# Altium footprint library aiskylab-11Electromechanical.PcbLib: 9 footprints
Each footprint in its own frame and in the unit in brackets; x right, y up, seen from the top. Pads: shape width x height; smd on the part's side, far side on the other; paste and mask are expansions set on the pad; w line width, h text height; cw(c..) or ccw(c..) is an arc to the next point about the centre after c.
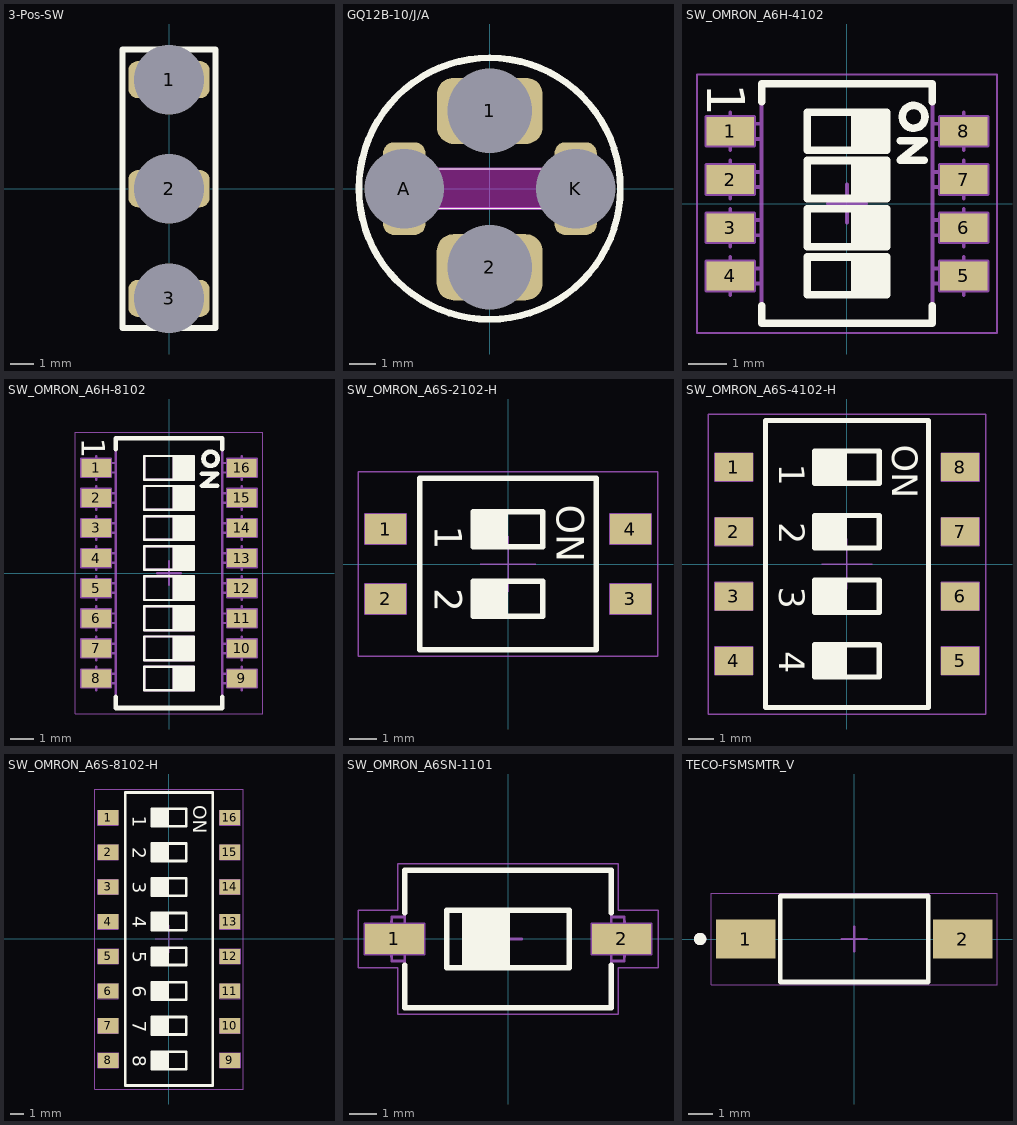
[diagram p0: the footprints below, top view; thin cyan lines are the x and y axes]

## 3-Pos-SW [mm]
pads (3):
  rrect50% 3.5x1.6 hole 3 square: 1(0,4.699) 2(0,0) 3(0,-4.724)
Top Overlay:
  lines w0.254: -2,-6 2,-6 2,6 0,6 -2,6 -2,-6
Top Assembly:
  lines w0.1: -1.356,-5.266 -1.356,-4.166 1.344,-4.166 1.344,-5.266 -1.356,-5.266 ; -1.356,-0.566 -1.356,0.534 1.344,0.534 1.344,-0.566 -1.356,-0.566 ; -1.356,4.134 -1.356,5.234 1.344,5.234 1.344,4.134 -1.356,4.134

## GQ12B-10/J/A [mm] "RGBN"
pads (4):
  rrect50% 4x2.5 hole 3.2 square: 1(0.007,2.939) 2(0,-2.972)
  rrect50% 1.6x3.5 hole 3 square: A(-3.226,0) K(3.251,0)
Top Overlay:
  circle w0.254: c0,0 r4.942
  lines w0.013: -3.7,-1.5 -3.7,1.5 -2.75,1.5 -2.75,-1.5 -3.7,-1.5 ; -2.25,-0.75 2.25,-0.75 2.25,0.75 -2.25,0.75 -2.25,-0.75 ; -1.5,-3.75 1.5,-3.75 1.5,-2.15 -1.5,-2.15 -1.5,-3.75 ; -1.5,2.15 1.5,2.15 1.5,3.75 -1.5,3.75 -1.5,2.15 ; 2.75,-1.5 2.75,1.5 3.7,1.5 3.7,-1.5 2.75,-1.5
  text "-" at 4.84,-0.102 h1.52
  text "+" at -4.826,-0.513 h1.52
Keep-Out Layer:
  board cut-out: -2.25,-0.75 2.25,-0.75 2.25,0.75 -2.25,0.75
Board:
  lines w0.1: -2.25,-0.729 -2.25,0.75 2.25,0.75 2.25,-0.75 -2.229,-0.75

## SW_OMRON_A6H-4102 [mm] "Pitch 1.27mm, Body 6.31 x 4.5mm, 4 Ways SPST Surface-Mounting DIP Switch, OMRON A6H"
height 1.45
pads (8):
  rect 1.25x0.76 smd: 1(-3.075,1.905) 2(-3.075,0.635) 3(-3.075,-0.635) 4(-3.075,-1.905) 5(3.075,-1.905) 6(3.075,-0.635) 7(3.075,0.635) 8(3.075,1.905)
Top Overlay:
  circle w0.2: c1.755,2.286 r0.3
  lines w0.2: -2.25,-2.685 -2.25,-3.155 2.25,-3.155 2.25,-2.685 ; -2.25,2.685 -2.25,3.155 2.25,3.155 2.25,2.685 ; 0.2,-2.405 0.2,-1.405 ; 0.2,-1.135 0.2,-0.135 ; 0.2,0.135 0.2,1.135 ; 0.2,1.405 0.2,2.405 ; 0.3,-2.405 0.3,-1.405 ; 0.3,-1.135 0.3,-0.135 ; 0.3,0.135 0.3,1.135 ; 0.3,1.405 0.3,2.405 ; 0.4,-2.405 0.4,-1.405 ; 0.4,-1.135 0.4,-0.135 ; 0.4,0.135 0.4,1.135 ; 0.4,1.405 0.4,2.405 ; 0.5,-2.405 0.5,-1.405 ; 0.5,-1.135 0.5,-0.135 ; 0.5,0.135 0.5,1.135 ; 0.5,1.405 0.5,2.405 ; 0.6,-2.405 0.6,-1.405 ; 0.6,-1.135 0.6,-0.135 ; 0.6,0.135 0.6,1.135 ; 0.6,1.405 0.6,2.405 ; 0.7,-2.405 0.7,-1.405 ; 0.7,-1.135 0.7,-0.135 ; 0.7,0.135 0.7,1.135 ; 0.7,1.405 0.7,2.405 ; 0.8,-2.405 0.8,-1.405 ; 0.8,-1.135 0.8,-0.135 ; 0.8,0.135 0.8,1.135 ; 0.8,1.405 0.8,2.405 ; 0.9,-2.405 0.9,-1.405 ; 0.9,-1.135 0.9,-0.135 ; 0.9,0.135 0.9,1.135 ; 0.9,1.405 0.9,2.405 ; 1,-2.405 1,-1.405 ; 1,-1.135 1,-0.135 ; 1,0.135 1,1.135 ; 1,1.405 1,2.405 ; 1.397,1.651 2.032,1.651 1.397,1.143 2.032,1.143 ; -1.05,-2.405 -1.05,-1.405 1.05,-1.405 1.05,-2.405 -1.05,-2.405 ; -1.05,-1.135 -1.05,-0.135 1.05,-0.135 1.05,-1.135 -1.05,-1.135 ; -1.05,0.135 -1.05,1.135 1.05,1.135 1.05,0.135 -1.05,0.135 ; -1.05,1.405 -1.05,2.405 1.05,2.405 1.05,1.405 -1.05,1.405
  text "1" at -3.683,3.175 h1
Top Assembly:
  lines w0.1: -2.25,-2.105 -2.87,-2.105 ; -2.25,-1.705 -2.87,-1.705 ; -2.25,-0.835 -2.87,-0.835 ; -2.25,-0.435 -2.87,-0.435 ; -2.25,0.435 -2.87,0.435 ; -2.25,0.835 -2.87,0.835 ; -2.25,1.705 -2.87,1.705 ; -2.25,2.105 -2.87,2.105 ; 0.2,-2.405 0.2,-1.405 ; 0.2,-1.135 0.2,-0.135 ; 0.2,0.135 0.2,1.135 ; 0.2,1.405 0.2,2.405 ; 0.3,-2.405 0.3,-1.405 ; 0.3,-1.135 0.3,-0.135 ; 0.3,0.135 0.3,1.135 ; 0.3,1.405 0.3,2.405 ; 0.4,-2.405 0.4,-1.405 ; 0.4,-1.135 0.4,-0.135 ; 0.4,0.135 0.4,1.135 ; 0.4,1.405 0.4,2.405 ; 0.5,-2.405 0.5,-1.405 ; 0.5,-1.135 0.5,-0.135 ; 0.5,0.135 0.5,1.135 ; 0.5,1.405 0.5,2.405 ; 0.6,-2.405 0.6,-1.405 ; 0.6,-1.135 0.6,-0.135 ; 0.6,0.135 0.6,1.135 ; 0.6,1.405 0.6,2.405 ; 0.7,-2.405 0.7,-1.405 ; 0.7,-1.135 0.7,-0.135 ; 0.7,0.135 0.7,1.135 ; 0.7,1.405 0.7,2.405 ; 0.8,-2.405 0.8,-1.405 ; 0.8,-1.135 0.8,-0.135 ; 0.8,0.135 0.8,1.135 ; 0.8,1.405 0.8,2.405 ; 0.9,-2.405 0.9,-1.405 ; 0.9,-1.135 0.9,-0.135 ; 0.9,0.135 0.9,1.135 ; 0.9,1.405 0.9,2.405 ; 1,-2.405 1,-1.405 ; 1,-1.135 1,-0.135 ; 1,0.135 1,1.135 ; 1,1.405 1,2.405 ; 2.25,-2.105 2.87,-2.105 ; 2.25,-1.705 2.87,-1.705 ; 2.25,-0.835 2.87,-0.835 ; 2.25,-0.435 2.87,-0.435 ; 2.25,0.435 2.87,0.435 ; 2.25,0.835 2.87,0.835 ; 2.25,1.705 2.87,1.705 ; 2.25,2.105 2.87,2.105 ; -2.87,-2.105 -2.87,-1.705 ; -2.87,-2.105 -3.35,-2.105 -3.35,-1.705 -2.87,-1.705 ; -2.87,-0.835 -2.87,-0.435 ; -2.87,-0.835 -3.35,-0.835 -3.35,-0.435 -2.87,-0.435 ; -2.87,0.435 -2.87,0.835 ; -2.87,0.435 -3.35,0.435 -3.35,0.835 -2.87,0.835 ; -2.87,1.705 -2.87,2.105 ; -2.87,1.705 -3.35,1.705 -3.35,2.105 -2.87,2.105 ; 2.87,-2.105 2.87,-1.705 ; 2.87,-2.105 3.35,-2.105 3.35,-1.705 2.87,-1.705 ; 2.87,-0.835 2.87,-0.435 ; 2.87,-0.835 3.35,-0.835 3.35,-0.435 2.87,-0.435 ; 2.87,0.435 2.87,0.835 ; 2.87,0.435 3.35,0.435 3.35,0.835 2.87,0.835 ; 2.87,1.705 2.87,2.105 ; 2.87,1.705 3.35,1.705 3.35,2.105 2.87,2.105 ; -2.25,-3.155 -2.25,3.155 2.25,3.155 2.25,-3.155 -2.25,-3.155 ; -1.05,-2.405 -1.05,-1.405 1.05,-1.405 1.05,-2.405 -1.05,-2.405 ; -1.05,-1.135 -1.05,-0.135 1.05,-0.135 1.05,-1.135 -1.05,-1.135 ; -1.05,0.135 -1.05,1.135 1.05,1.135 1.05,0.135 -1.05,0.135 ; -1.05,1.405 -1.05,2.405 1.05,2.405 1.05,1.405 -1.05,1.405
Top Component Center:
  lines w0.1: -3.575,-1.905 -3.075,-1.905 ; -3.575,-0.635 -3.075,-0.635 ; -3.575,0.635 -3.075,0.635 ; -3.575,1.905 -3.075,1.905 ; -3.075,-2.405 -3.075,-1.905 ; -3.075,-1.405 -3.075,-1.905 ; -3.075,-1.135 -3.075,-0.635 ; -3.075,-0.135 -3.075,-0.635 ; -3.075,0.135 -3.075,0.635 ; -3.075,1.135 -3.075,0.635 ; -3.075,1.405 -3.075,1.905 ; -3.075,2.405 -3.075,1.905 ; -2.575,-1.905 -3.075,-1.905 ; -2.575,-0.635 -3.075,-0.635 ; -2.575,0.635 -3.075,0.635 ; -2.575,1.905 -3.075,1.905 ; -0.5,0 0,0 ; 0,-0.5 0,0 ; 0,0.5 0,0 ; 0.5,0 0,0 ; 2.575,-1.905 3.075,-1.905 ; 2.575,-0.635 3.075,-0.635 ; 2.575,0.635 3.075,0.635 ; 2.575,1.905 3.075,1.905 ; 3.075,-2.405 3.075,-1.905 ; 3.075,-1.405 3.075,-1.905 ; 3.075,-1.135 3.075,-0.635 ; 3.075,-0.135 3.075,-0.635 ; 3.075,0.135 3.075,0.635 ; 3.075,1.135 3.075,0.635 ; 3.075,1.405 3.075,1.905 ; 3.075,2.405 3.075,1.905 ; 3.575,-1.905 3.075,-1.905 ; 3.575,-0.635 3.075,-0.635 ; 3.575,0.635 3.075,0.635 ; 3.575,1.905 3.075,1.905 ; -3.7,-2.285 -2.45,-2.285 -2.45,-1.525 -3.7,-1.525 -3.7,-2.285 ; -3.7,-1.015 -3.7,-0.255 -2.45,-0.255 -2.45,-1.015 -3.7,-1.015 ; -3.7,0.255 -3.7,1.015 -2.45,1.015 -2.45,0.255 -3.7,0.255 ; -3.7,1.525 -2.45,1.525 -2.45,2.285 -3.7,2.285 -3.7,1.525 ; 2.45,-2.285 3.7,-2.285 3.7,-1.525 2.45,-1.525 2.45,-2.285 ; 2.45,-1.015 2.45,-0.255 3.7,-0.255 3.7,-1.015 2.45,-1.015 ; 2.45,0.255 2.45,1.015 3.7,1.015 3.7,0.255 2.45,0.255 ; 2.45,1.525 3.7,1.525 3.7,2.285 2.45,2.285 2.45,1.525
Top Component Outline:
  lines w0.05: -3.95,-3.405 3.95,-3.405 3.95,3.405 -3.95,3.405 -3.95,-3.405
Top 3D Body:
  lines w0.1: -2.25,-2.105 -2.87,-2.105 ; -2.25,-1.705 -2.87,-1.705 ; -2.25,-0.835 -2.87,-0.835 ; -2.25,-0.435 -2.87,-0.435 ; -2.25,0.435 -2.87,0.435 ; -2.25,0.835 -2.87,0.835 ; -2.25,1.705 -2.87,1.705 ; -2.25,2.105 -2.87,2.105 ; 0.2,-2.405 0.2,-1.405 ; 0.2,-1.135 0.2,-0.135 ; 0.2,0.135 0.2,1.135 ; 0.2,1.405 0.2,2.405 ; 0.3,-2.405 0.3,-1.405 ; 0.3,-1.135 0.3,-0.135 ; 0.3,0.135 0.3,1.135 ; 0.3,1.405 0.3,2.405 ; 0.4,-2.405 0.4,-1.405 ; 0.4,-1.135 0.4,-0.135 ; 0.4,0.135 0.4,1.135 ; 0.4,1.405 0.4,2.405 ; 0.5,-2.405 0.5,-1.405 ; 0.5,-1.135 0.5,-0.135 ; 0.5,0.135 0.5,1.135 ; 0.5,1.405 0.5,2.405 ; 0.6,-2.405 0.6,-1.405 ; 0.6,-1.135 0.6,-0.135 ; 0.6,0.135 0.6,1.135 ; 0.6,1.405 0.6,2.405 ; 0.7,-2.405 0.7,-1.405 ; 0.7,-1.135 0.7,-0.135 ; 0.7,0.135 0.7,1.135 ; 0.7,1.405 0.7,2.405 ; 0.8,-2.405 0.8,-1.405 ; 0.8,-1.135 0.8,-0.135 ; 0.8,0.135 0.8,1.135 ; 0.8,1.405 0.8,2.405 ; 0.9,-2.405 0.9,-1.405 ; 0.9,-1.135 0.9,-0.135 ; 0.9,0.135 0.9,1.135 ; 0.9,1.405 0.9,2.405 ; 1,-2.405 1,-1.405 ; 1,-1.135 1,-0.135 ; 1,0.135 1,1.135 ; 1,1.405 1,2.405 ; 2.25,-2.105 2.87,-2.105 ; 2.25,-1.705 2.87,-1.705 ; 2.25,-0.835 2.87,-0.835 ; 2.25,-0.435 2.87,-0.435 ; 2.25,0.435 2.87,0.435 ; 2.25,0.835 2.87,0.835 ; 2.25,1.705 2.87,1.705 ; 2.25,2.105 2.87,2.105 ; -2.87,-2.105 -2.87,-1.705 ; -2.87,-2.105 -3.35,-2.105 -3.35,-1.705 -2.87,-1.705 ; -2.87,-0.835 -2.87,-0.435 ; -2.87,-0.835 -3.35,-0.835 -3.35,-0.435 -2.87,-0.435 ; -2.87,0.435 -2.87,0.835 ; -2.87,0.435 -3.35,0.435 -3.35,0.835 -2.87,0.835 ; -2.87,1.705 -2.87,2.105 ; -2.87,1.705 -3.35,1.705 -3.35,2.105 -2.87,2.105 ; 2.87,-2.105 2.87,-1.705 ; 2.87,-2.105 3.35,-2.105 3.35,-1.705 2.87,-1.705 ; 2.87,-0.835 2.87,-0.435 ; 2.87,-0.835 3.35,-0.835 3.35,-0.435 2.87,-0.435 ; 2.87,0.435 2.87,0.835 ; 2.87,0.435 3.35,0.435 3.35,0.835 2.87,0.835 ; 2.87,1.705 2.87,2.105 ; 2.87,1.705 3.35,1.705 3.35,2.105 2.87,2.105 ; -2.25,-3.155 -2.25,3.155 2.25,3.155 2.25,-3.155 -2.25,-3.155 ; -1.05,-2.405 -1.05,-1.405 1.05,-1.405 1.05,-2.405 -1.05,-2.405 ; -1.05,-1.135 -1.05,-0.135 1.05,-0.135 1.05,-1.135 -1.05,-1.135 ; -1.05,0.135 -1.05,1.135 1.05,1.135 1.05,0.135 -1.05,0.135 ; -1.05,1.405 -1.05,2.405 1.05,2.405 1.05,1.405 -1.05,1.405
3D body "SW_OMRON_A6H-4102.stp": height 1.55, standoff 0, extent -3.35,-3.155 3.35,3.155

## SW_OMRON_A6H-8102 [mm] "Pitch 1.27mm, Body 11.39 x 4.5mm, 8 Ways SPST Surface-Mounting DIP Switch, OMRON A6H"
height 1.45
pads (16):
  rect 1.25x0.76 smd: 1(-3.075,4.445) 2(-3.075,3.175) 3(-3.075,1.905) 4(-3.075,0.635) 5(-3.075,-0.635) 6(-3.075,-1.905) 7(-3.075,-3.175) 8(-3.075,-4.445) 9(3.075,-4.445) 10(3.075,-3.175) 11(3.075,-1.905) 12(3.075,-0.635) 13(3.075,0.635) 14(3.075,1.905) 15(3.075,3.175) 16(3.075,4.445)
Top Overlay:
  circle w0.2: c1.755,4.826 r0.3
  lines w0.1: 0.2,-4.945 0.2,-3.945 ; 0.2,-3.675 0.2,-2.675 ; 0.2,-2.405 0.2,-1.405 ; 0.2,-1.135 0.2,-0.135 ; 0.2,0.135 0.2,1.135 ; 0.2,1.405 0.2,2.405 ; 0.2,2.675 0.2,3.675 ; 0.2,3.945 0.2,4.945 ; 0.3,-4.945 0.3,-3.945 ; 0.3,-3.675 0.3,-2.675 ; 0.3,-2.405 0.3,-1.405 ; 0.3,-1.135 0.3,-0.135 ; 0.3,0.135 0.3,1.135 ; 0.3,1.405 0.3,2.405 ; 0.3,2.675 0.3,3.675 ; 0.3,3.945 0.3,4.945 ; 0.4,-4.945 0.4,-3.945 ; 0.4,-3.675 0.4,-2.675 ; 0.4,-2.405 0.4,-1.405 ; 0.4,-1.135 0.4,-0.135 ; 0.4,0.135 0.4,1.135 ; 0.4,1.405 0.4,2.405 ; 0.4,2.675 0.4,3.675 ; 0.4,3.945 0.4,4.945 ; 0.5,-4.945 0.5,-3.945 ; 0.5,-3.675 0.5,-2.675 ; 0.5,-2.405 0.5,-1.405 ; 0.5,-1.135 0.5,-0.135 ; 0.5,0.135 0.5,1.135 ; 0.5,1.405 0.5,2.405 ; 0.5,2.675 0.5,3.675 ; 0.5,3.945 0.5,4.945 ; 0.6,-4.945 0.6,-3.945 ; 0.6,-3.675 0.6,-2.675 ; 0.6,-2.405 0.6,-1.405 ; 0.6,-1.135 0.6,-0.135 ; 0.6,0.135 0.6,1.135 ; 0.6,1.405 0.6,2.405 ; 0.6,2.675 0.6,3.675 ; 0.6,3.945 0.6,4.945 ; 0.7,-4.945 0.7,-3.945 ; 0.7,-3.675 0.7,-2.675 ; 0.7,-2.405 0.7,-1.405 ; 0.7,-1.135 0.7,-0.135 ; 0.7,0.135 0.7,1.135 ; 0.7,1.405 0.7,2.405 ; 0.7,2.675 0.7,3.675 ; 0.7,3.945 0.7,4.945 ; 0.8,-4.945 0.8,-3.945 ; 0.8,-3.675 0.8,-2.675 ; 0.8,-2.405 0.8,-1.405 ; 0.8,-1.135 0.8,-0.135 ; 0.8,0.135 0.8,1.135 ; 0.8,1.405 0.8,2.405 ; 0.8,2.675 0.8,3.675 ; 0.8,3.945 0.8,4.945 ; 0.9,-4.945 0.9,-3.945 ; 0.9,-3.675 0.9,-2.675 ; 0.9,-2.405 0.9,-1.405 ; 0.9,-1.135 0.9,-0.135 ; 0.9,0.135 0.9,1.135 ; 0.9,1.405 0.9,2.405 ; 0.9,2.675 0.9,3.675 ; 0.9,3.945 0.9,4.945 ; 1,-4.945 1,-3.945 ; 1,-3.675 1,-2.675 ; 1,-2.405 1,-1.405 ; 1,-1.135 1,-0.135 ; 1,0.135 1,1.135 ; 1,1.405 1,2.405 ; 1,2.675 1,3.675 ; 1,3.945 1,4.945 ; -1.05,-4.945 -1.05,-3.945 1.05,-3.945 1.05,-4.945 -1.05,-4.945 ; -1.05,-3.675 -1.05,-2.675 1.05,-2.675 1.05,-3.675 -1.05,-3.675 ; -1.05,-2.405 -1.05,-1.405 1.05,-1.405 1.05,-2.405 -1.05,-2.405 ; -1.05,-1.135 -1.05,-0.135 1.05,-0.135 1.05,-1.135 -1.05,-1.135 ; -1.05,0.135 -1.05,1.135 1.05,1.135 1.05,0.135 -1.05,0.135 ; -1.05,1.405 -1.05,2.405 1.05,2.405 1.05,1.405 -1.05,1.405 ; -1.05,2.675 -1.05,3.675 1.05,3.675 1.05,2.675 -1.05,2.675 ; -1.05,3.945 -1.05,4.945 1.05,4.945 1.05,3.945 -1.05,3.945
  lines w0.2: -2.25,-5.225 -2.25,-5.695 2.25,-5.695 2.25,-5.225 ; -2.25,5.225 -2.25,5.695 2.25,5.695 2.25,5.225 ; 1.397,4.191 2.032,4.191 1.397,3.683 2.032,3.683
  text "1" at -3.683,5.715 h1
Top Assembly:
  drawing of 208 lines, arcs and shapes, not listed
  text "1" at -3.683,5.715 h1
Top Component Center:
  lines w0.1: -3.575,-4.445 -3.075,-4.445 ; -3.575,-3.175 -3.075,-3.175 ; -3.575,-1.905 -3.075,-1.905 ; -3.575,-0.635 -3.075,-0.635 ; -3.575,0.635 -3.075,0.635 ; -3.575,1.905 -3.075,1.905 ; -3.575,3.175 -3.075,3.175 ; -3.575,4.445 -3.075,4.445 ; -3.075,-4.945 -3.075,-4.445 ; -3.075,-3.945 -3.075,-4.445 ; -3.075,-3.675 -3.075,-3.175 ; -3.075,-2.675 -3.075,-3.175 ; -3.075,-2.405 -3.075,-1.905 ; -3.075,-1.405 -3.075,-1.905 ; -3.075,-1.135 -3.075,-0.635 ; -3.075,-0.135 -3.075,-0.635 ; -3.075,0.135 -3.075,0.635 ; -3.075,1.135 -3.075,0.635 ; -3.075,1.405 -3.075,1.905 ; -3.075,2.405 -3.075,1.905 ; -3.075,2.675 -3.075,3.175 ; -3.075,3.675 -3.075,3.175 ; -3.075,3.945 -3.075,4.445 ; -3.075,4.945 -3.075,4.445 ; -2.575,-4.445 -3.075,-4.445 ; -2.575,-3.175 -3.075,-3.175 ; -2.575,-1.905 -3.075,-1.905 ; -2.575,-0.635 -3.075,-0.635 ; -2.575,0.635 -3.075,0.635 ; -2.575,1.905 -3.075,1.905 ; -2.575,3.175 -3.075,3.175 ; -2.575,4.445 -3.075,4.445 ; -0.5,0 0,0 ; 0,-0.5 0,0 ; 0,0.5 0,0 ; 0.5,0 0,0 ; 2.575,-4.445 3.075,-4.445 ; 2.575,-3.175 3.075,-3.175 ; 2.575,-1.905 3.075,-1.905 ; 2.575,-0.635 3.075,-0.635 ; 2.575,0.635 3.075,0.635 ; 2.575,1.905 3.075,1.905 ; 2.575,3.175 3.075,3.175 ; 2.575,4.445 3.075,4.445 ; 3.075,-4.945 3.075,-4.445 ; 3.075,-3.945 3.075,-4.445 ; 3.075,-3.675 3.075,-3.175 ; 3.075,-2.675 3.075,-3.175 ; 3.075,-2.405 3.075,-1.905 ; 3.075,-1.405 3.075,-1.905 ; 3.075,-1.135 3.075,-0.635 ; 3.075,-0.135 3.075,-0.635 ; 3.075,0.135 3.075,0.635 ; 3.075,1.135 3.075,0.635 ; 3.075,1.405 3.075,1.905 ; 3.075,2.405 3.075,1.905 ; 3.075,2.675 3.075,3.175 ; 3.075,3.675 3.075,3.175 ; 3.075,3.945 3.075,4.445 ; 3.075,4.945 3.075,4.445 ; 3.575,-4.445 3.075,-4.445 ; 3.575,-3.175 3.075,-3.175 ; 3.575,-1.905 3.075,-1.905 ; 3.575,-0.635 3.075,-0.635 ; 3.575,0.635 3.075,0.635 ; 3.575,1.905 3.075,1.905 ; 3.575,3.175 3.075,3.175 ; 3.575,4.445 3.075,4.445 ; -3.7,-4.825 -3.7,-4.065 -2.45,-4.065 -2.45,-4.825 -3.7,-4.825 ; -3.7,-3.555 -3.7,-2.795 -2.45,-2.795 -2.45,-3.555 -3.7,-3.555 ; -3.7,-2.285 -3.7,-1.525 -2.45,-1.525 -2.45,-2.285 -3.7,-2.285 ; -3.7,-1.015 -3.7,-0.255 -2.45,-0.255 -2.45,-1.015 -3.7,-1.015 ; -3.7,0.255 -3.7,1.015 -2.45,1.015 -2.45,0.255 -3.7,0.255 ; -3.7,1.525 -3.7,2.285 -2.45,2.285 -2.45,1.525 -3.7,1.525 ; -3.7,2.795 -3.7,3.555 -2.45,3.555 -2.45,2.795 -3.7,2.795 ; -3.7,4.065 -3.7,4.825 -2.45,4.825 -2.45,4.065 -3.7,4.065 ; 2.45,-4.825 2.45,-4.065 3.7,-4.065 3.7,-4.825 2.45,-4.825 ; 2.45,-3.555 2.45,-2.795 3.7,-2.795 3.7,-3.555 2.45,-3.555 ; 2.45,-2.285 2.45,-1.525 3.7,-1.525 3.7,-2.285 2.45,-2.285 ; 2.45,-1.015 2.45,-0.255 3.7,-0.255 3.7,-1.015 2.45,-1.015 ; 2.45,0.255 2.45,1.015 3.7,1.015 3.7,0.255 2.45,0.255 ; 2.45,1.525 2.45,2.285 3.7,2.285 3.7,1.525 2.45,1.525 ; 2.45,2.795 2.45,3.555 3.7,3.555 3.7,2.795 2.45,2.795 ; 2.45,4.065 2.45,4.825 3.7,4.825 3.7,4.065 2.45,4.065
Top 3D Body:
  drawing of 208 lines, arcs and shapes, not listed
  text "1" at -3.683,5.715 h1
Bottom 3D Body:
  lines w0.05: -3.95,-5.945 3.95,-5.945 3.95,5.945 -3.95,5.945 -3.95,-5.945
3D body "SW_OMRON_A6H-8102.stp": height 1.55, standoff 0, extent -3.35,-5.695 3.35,5.695

## SW_OMRON_A6S-2102-H [mm] "Pitch 2.54mm, Body 6.2x6.4mm, 2 Ways SPST Surface-Mounting DIP Switch, OMRON A6S-H"
height 3.8
pads (4):
  rect 1.5x1.1 smd: 1(-4.45,1.27) 2(-4.45,-1.27) 3(4.45,-1.27) 4(4.45,1.27)
Top Overlay:
  region: -1.27,-0.635 -1.27,-1.905 0,-1.905 0,-0.635
  region: -1.27,1.905 -1.27,0.635 0,0.635 0,1.905
  lines w0.2: -3.2,-3.11 -3.2,3.11 3.2,3.11 3.2,-3.11 -3.2,-3.11 ; -1.27,-1.905 1.27,-1.905 1.27,-0.635 -1.27,-0.635 -1.27,-1.905 ; -1.27,0.635 -1.27,1.905 1.27,1.905 1.27,0.635 -1.27,0.635
  text "1" at -2.667,1.397 h1
  text "2" at -2.667,-0.889 h1
  text "ON" at 1.778,2.159 h1
Top Assembly:
  region: -1.27,1.905 -1.27,0.635 0,0.635 0,1.905
  region: -1.27,-0.635 -1.27,-1.905 0,-1.905 0,-0.635
  lines w0.1: -3.2,-3.11 3.2,-3.11 3.2,3.11 -3.2,3.11 -3.2,-3.11 ; -1.27,-1.905 1.27,-1.905 1.27,-0.635 -1.27,-0.635 -1.27,-1.905 ; -1.27,0.635 -1.27,1.905 1.27,1.905 1.27,0.635 -1.27,0.635
  text "1" at -2.667,1.397 h1
  text "2" at -2.667,-0.889 h1
  text "ON" at 1.778,2.159 h1
Top Component Center:
  lines w0.05: -5.2,1.27 -4.45,1.27 -4.45,0.72 ; -1,0 1,0 ; 0,-1 0,1 ; -5.2,-1.82 -3.7,-1.82 -3.7,-0.72 -5.2,-0.72 -5.2,-1.82 ; -5.2,0.72 -3.7,0.72 -3.7,1.82 -5.2,1.82 -5.2,0.72 ; 3.7,-1.82 5.2,-1.82 5.2,-0.72 3.7,-0.72 3.7,-1.82 ; 3.7,0.72 5.2,0.72 5.2,1.82 3.7,1.82 3.7,0.72
Top Component Outline:
  lines w0.05: -5.45,-3.36 -5.45,3.36 5.45,3.36 5.45,-3.36 -5.45,-3.36
Top 3D Body:
  region: -1.27,1.905 -1.27,0.635 0,0.635 0,1.905
  region: -1.27,-0.635 -1.27,-1.905 0,-1.905 0,-0.635
  lines w0.1: -3.2,-3.11 3.2,-3.11 3.2,3.11 -3.2,3.11 -3.2,-3.11 ; -1.27,-1.905 1.27,-1.905 1.27,-0.635 -1.27,-0.635 -1.27,-1.905 ; -1.27,0.635 -1.27,1.905 1.27,1.905 1.27,0.635 -1.27,0.635
  text "1" at -2.667,1.397 h1
  text "2" at -2.667,-0.889 h1
  text "ON" at 1.778,2.159 h1
3D body "SW_OMRON_A6S-2102-H.stp": height 3.97, standoff 0, extent -4.901,-3.01 4.902,3.01

## SW_OMRON_A6S-4102-H [mm] "Pitch 2.54mm, Body 11.3x6.4mm, 4 Ways SPST Surface-Mounting DIP Switch, OMRON A6S-H"
height 3.8
pads (8):
  rect 1.5x1.1 smd: 1(-4.45,3.81) 2(-4.45,1.27) 3(-4.45,-1.27) 4(-4.45,-3.81) 5(4.45,-3.81) 6(4.45,-1.27) 7(4.45,1.27) 8(4.45,3.81)
Top Overlay:
  region: -1.27,-3.175 -1.27,-4.445 0,-4.445 0,-3.175
  region: -1.27,-0.635 -1.27,-1.905 0,-1.905 0,-0.635
  region: -1.27,1.905 -1.27,0.635 0,0.635 0,1.905
  region: -1.27,4.445 -1.27,3.175 0,3.175 0,4.445
  lines w0.2: -3.2,-5.65 -3.2,5.65 3.2,5.65 3.2,-5.65 -3.2,-5.65 ; -1.27,-4.445 -1.27,-3.175 1.27,-3.175 1.27,-4.445 -1.27,-4.445 ; -1.27,-1.905 -1.27,-0.635 1.27,-0.635 1.27,-1.905 -1.27,-1.905 ; -1.27,0.635 1.27,0.635 1.27,1.905 -1.27,1.905 -1.27,0.635 ; -1.27,3.175 -1.27,4.445 1.27,4.445 1.27,3.175 -1.27,3.175
  text "1" at -2.667,3.937 h1
  text "2" at -2.667,1.651 h1
  text "ON" at 1.778,4.699 h1
  text "3" at -2.667,-0.889 h1
  text "4" at -2.667,-3.429 h1
Top Assembly:
  region: -1.27,-3.175 -1.27,-4.445 0,-4.445 0,-3.175
  region: -1.27,-0.635 -1.27,-1.905 0,-1.905 0,-0.635
  region: -1.27,4.445 -1.27,3.175 0,3.175 0,4.445
  region: -1.27,1.905 -1.27,0.635 0,0.635 0,1.905
  lines w0.1: -3.2,-5.65 3.2,-5.65 3.2,5.65 -3.2,5.65 -3.2,-5.65 ; -1.27,-4.445 -1.27,-3.175 1.27,-3.175 1.27,-4.445 -1.27,-4.445 ; -1.27,-1.905 -1.27,-0.635 1.27,-0.635 1.27,-1.905 -1.27,-1.905 ; -1.27,0.635 1.27,0.635 1.27,1.905 -1.27,1.905 -1.27,0.635 ; -1.27,3.175 -1.27,4.445 1.27,4.445 1.27,3.175 -1.27,3.175
  text "1" at -2.667,3.937 h1
  text "2" at -2.667,1.651 h1
  text "ON" at 1.778,4.699 h1
  text "3" at -2.667,-0.889 h1
  text "4" at -2.667,-3.429 h1
Top Component Center:
  lines w0.05: -1,0 1,0 ; 0,-1 0,1 ; -5.2,-4.36 -3.7,-4.36 -3.7,-3.26 -5.2,-3.26 -5.2,-4.36 ; -5.2,-1.82 -3.7,-1.82 -3.7,-0.72 -5.2,-0.72 -5.2,-1.82 ; -5.2,0.72 -3.7,0.72 -3.7,1.82 -5.2,1.82 -5.2,0.72 ; -5.2,3.26 -3.7,3.26 -3.7,4.36 -5.2,4.36 -5.2,3.26 ; -3.2,-5.65 3.2,-5.65 3.2,5.65 -3.2,5.65 -3.2,-5.65 ; 3.7,-4.36 5.2,-4.36 5.2,-3.26 3.7,-3.26 3.7,-4.36 ; 3.7,-1.82 5.2,-1.82 5.2,-0.72 3.7,-0.72 3.7,-1.82 ; 3.7,0.72 5.2,0.72 5.2,1.82 3.7,1.82 3.7,0.72 ; 3.7,3.26 5.2,3.26 5.2,4.36 3.7,4.36 3.7,3.26
Top Component Outline:
  lines w0.05: -5.45,-5.9 -5.45,5.9 5.45,5.9 5.45,-5.9 -5.45,-5.9
Top 3D Body:
  region: -1.27,-3.175 -1.27,-4.445 0,-4.445 0,-3.175
  region: -1.27,-0.635 -1.27,-1.905 0,-1.905 0,-0.635
  region: -1.27,4.445 -1.27,3.175 0,3.175 0,4.445
  region: -1.27,1.905 -1.27,0.635 0,0.635 0,1.905
  lines w0.1: -3.2,-5.65 3.2,-5.65 3.2,5.65 -3.2,5.65 -3.2,-5.65 ; -1.27,-4.445 -1.27,-3.175 1.27,-3.175 1.27,-4.445 -1.27,-4.445 ; -1.27,-1.905 -1.27,-0.635 1.27,-0.635 1.27,-1.905 -1.27,-1.905 ; -1.27,0.635 1.27,0.635 1.27,1.905 -1.27,1.905 -1.27,0.635 ; -1.27,3.175 -1.27,4.445 1.27,4.445 1.27,3.175 -1.27,3.175
  text "1" at -2.667,3.937 h1
  text "2" at -2.667,1.651 h1
  text "ON" at 1.778,4.699 h1
  text "3" at -2.667,-0.889 h1
  text "4" at -2.667,-3.429 h1
3D body "SW_OMRON_A6S-4102-H.stp": height 3.97, standoff 0, extent -4.901,-5.55 4.902,5.55

## SW_OMRON_A6S-8102-H [mm] "Pitch 2.54mm, Body 21.5x6.4mm, 8 Ways SPST Surface-Mounting DIP Switch, OMRON A6S-H"
height 3.8
pads (16):
  rect 1.5x1.1 smd: 1(-4.45,8.89) 2(-4.45,6.35) 3(-4.45,3.81) 4(-4.45,1.27) 5(-4.45,-1.27) 6(-4.45,-3.81) 7(-4.45,-6.35) 8(-4.45,-8.89) 9(4.45,-8.89) 10(4.45,-6.35) 11(4.45,-3.81) 12(4.45,-1.27) 13(4.45,1.27) 14(4.45,3.81) 15(4.45,6.35) 16(4.45,8.89)
Top Overlay:
  region: -1.27,-8.255 -1.27,-9.525 0,-9.525 0,-8.255
  region: -1.27,-5.715 -1.27,-6.985 0,-6.985 0,-5.715
  region: -1.27,-3.175 -1.27,-4.445 0,-4.445 0,-3.175
  region: -1.27,-0.635 -1.27,-1.905 0,-1.905 0,-0.635
  region: -1.27,1.905 -1.27,0.635 0,0.635 0,1.905
  region: -1.27,4.445 -1.27,3.175 0,3.175 0,4.445
  region: -1.27,6.985 -1.27,5.715 0,5.715 0,6.985
  region: -1.27,9.525 -1.27,8.255 0,8.255 0,9.525
  lines w0.2: -3.2,-10.73 -3.2,10.73 3.2,10.73 3.2,-10.73 -3.2,-10.73 ; -1.27,-9.525 1.27,-9.525 1.27,-8.255 -1.27,-8.255 -1.27,-9.525 ; -1.27,-6.985 1.27,-6.985 1.27,-5.715 -1.27,-5.715 -1.27,-6.985 ; -1.27,-4.445 1.27,-4.445 1.27,-3.175 -1.27,-3.175 -1.27,-4.445 ; -1.27,-1.905 1.27,-1.905 1.27,-0.635 -1.27,-0.635 -1.27,-1.905 ; -1.27,0.635 -1.27,1.905 1.27,1.905 1.27,0.635 -1.27,0.635 ; -1.27,3.175 -1.27,4.445 1.27,4.445 1.27,3.175 -1.27,3.175 ; -1.27,5.715 1.27,5.715 1.27,6.985 -1.27,6.985 -1.27,5.715 ; -1.27,8.255 -1.27,9.525 1.27,9.525 1.27,8.255 -1.27,8.255
  text "1" at -2.667,9.017 h1
  text "2" at -2.667,6.731 h1
  text "ON" at 1.778,9.779 h1
  text "3" at -2.667,4.191 h1
  text "4" at -2.667,1.651 h1
  text "5" at -2.667,-0.889 h1
  text "6" at -2.667,-3.429 h1
  text "7" at -2.667,-5.969 h1
  text "8" at -2.667,-8.509 h1
Top Assembly:
  region: -1.27,-8.255 -1.27,-9.525 0,-9.525 0,-8.255
  region: -1.27,-5.715 -1.27,-6.985 0,-6.985 0,-5.715
  region: -1.27,-3.175 -1.27,-4.445 0,-4.445 0,-3.175
  region: -1.27,-0.635 -1.27,-1.905 0,-1.905 0,-0.635
  region: -1.27,1.905 -1.27,0.635 0,0.635 0,1.905
  region: -1.27,4.445 -1.27,3.175 0,3.175 0,4.445
  region: -1.27,9.525 -1.27,8.255 0,8.255 0,9.525
  region: -1.27,6.985 -1.27,5.715 0,5.715 0,6.985
  lines w0.1: -3.2,-10.73 3.2,-10.73 3.2,10.73 -3.2,10.73 -3.2,-10.73 ; -1.27,-9.525 1.27,-9.525 1.27,-8.255 -1.27,-8.255 -1.27,-9.525 ; -1.27,-6.985 1.27,-6.985 1.27,-5.715 -1.27,-5.715 -1.27,-6.985 ; -1.27,-4.445 1.27,-4.445 1.27,-3.175 -1.27,-3.175 -1.27,-4.445 ; -1.27,-1.905 1.27,-1.905 1.27,-0.635 -1.27,-0.635 -1.27,-1.905 ; -1.27,0.635 -1.27,1.905 1.27,1.905 1.27,0.635 -1.27,0.635 ; -1.27,3.175 -1.27,4.445 1.27,4.445 1.27,3.175 -1.27,3.175 ; -1.27,5.715 1.27,5.715 1.27,6.985 -1.27,6.985 -1.27,5.715 ; -1.27,8.255 -1.27,9.525 1.27,9.525 1.27,8.255 -1.27,8.255
  text "1" at -2.667,9.017 h1
  text "2" at -2.667,6.731 h1
  text "ON" at 1.778,9.779 h1
  text "3" at -2.667,4.191 h1
  text "4" at -2.667,1.651 h1
  text "5" at -2.667,-0.889 h1
  text "6" at -2.667,-3.429 h1
  text "7" at -2.667,-5.969 h1
  text "8" at -2.667,-8.509 h1
Top Component Center:
  lines w0.05: -1,0 1,0 ; 0,-1 0,1 ; -5.2,-9.44 -3.7,-9.44 -3.7,-8.34 -5.2,-8.34 -5.2,-9.44 ; -5.2,-6.9 -3.7,-6.9 -3.7,-5.8 -5.2,-5.8 -5.2,-6.9 ; -5.2,-4.36 -3.7,-4.36 -3.7,-3.26 -5.2,-3.26 -5.2,-4.36 ; -5.2,-1.82 -3.7,-1.82 -3.7,-0.72 -5.2,-0.72 -5.2,-1.82 ; -5.2,0.72 -3.7,0.72 -3.7,1.82 -5.2,1.82 -5.2,0.72 ; -5.2,3.26 -3.7,3.26 -3.7,4.36 -5.2,4.36 -5.2,3.26 ; -5.2,5.8 -3.7,5.8 -3.7,6.9 -5.2,6.9 -5.2,5.8 ; -5.2,8.34 -3.7,8.34 -3.7,9.44 -5.2,9.44 -5.2,8.34 ; -3.2,-10.73 3.2,-10.73 3.2,10.73 -3.2,10.73 -3.2,-10.73 ; 3.7,-9.44 5.2,-9.44 5.2,-8.34 3.7,-8.34 3.7,-9.44 ; 3.7,-6.9 5.2,-6.9 5.2,-5.8 3.7,-5.8 3.7,-6.9 ; 3.7,-4.36 5.2,-4.36 5.2,-3.26 3.7,-3.26 3.7,-4.36 ; 3.7,-1.82 5.2,-1.82 5.2,-0.72 3.7,-0.72 3.7,-1.82 ; 3.7,0.72 5.2,0.72 5.2,1.82 3.7,1.82 3.7,0.72 ; 3.7,3.26 5.2,3.26 5.2,4.36 3.7,4.36 3.7,3.26 ; 3.7,5.8 5.2,5.8 5.2,6.9 3.7,6.9 3.7,5.8 ; 3.7,8.34 5.2,8.34 5.2,9.44 3.7,9.44 3.7,8.34
Top 3D Body:
  region: -1.27,-8.255 -1.27,-9.525 0,-9.525 0,-8.255
  region: -1.27,-5.715 -1.27,-6.985 0,-6.985 0,-5.715
  region: -1.27,-3.175 -1.27,-4.445 0,-4.445 0,-3.175
  region: -1.27,-0.635 -1.27,-1.905 0,-1.905 0,-0.635
  region: -1.27,1.905 -1.27,0.635 0,0.635 0,1.905
  region: -1.27,4.445 -1.27,3.175 0,3.175 0,4.445
  region: -1.27,9.525 -1.27,8.255 0,8.255 0,9.525
  region: -1.27,6.985 -1.27,5.715 0,5.715 0,6.985
  lines w0.1: -3.2,-10.73 3.2,-10.73 3.2,10.73 -3.2,10.73 -3.2,-10.73 ; -1.27,-9.525 1.27,-9.525 1.27,-8.255 -1.27,-8.255 -1.27,-9.525 ; -1.27,-6.985 1.27,-6.985 1.27,-5.715 -1.27,-5.715 -1.27,-6.985 ; -1.27,-4.445 1.27,-4.445 1.27,-3.175 -1.27,-3.175 -1.27,-4.445 ; -1.27,-1.905 1.27,-1.905 1.27,-0.635 -1.27,-0.635 -1.27,-1.905 ; -1.27,0.635 -1.27,1.905 1.27,1.905 1.27,0.635 -1.27,0.635 ; -1.27,3.175 -1.27,4.445 1.27,4.445 1.27,3.175 -1.27,3.175 ; -1.27,5.715 1.27,5.715 1.27,6.985 -1.27,6.985 -1.27,5.715 ; -1.27,8.255 -1.27,9.525 1.27,9.525 1.27,8.255 -1.27,8.255
  text "1" at -2.667,9.017 h1
  text "2" at -2.667,6.731 h1
  text "ON" at 1.778,9.779 h1
  text "3" at -2.667,4.191 h1
  text "4" at -2.667,1.651 h1
  text "5" at -2.667,-0.889 h1
  text "6" at -2.667,-3.429 h1
  text "7" at -2.667,-5.969 h1
  text "8" at -2.667,-8.509 h1
Bottom 3D Body:
  lines w0.05: -5.45,-10.98 5.45,-10.98 5.45,10.98 -5.45,10.98 -5.45,-10.98
3D body "SW_OMRON_A6S-8102-H.stp": height 3.85, standoff -0.12, extent -4.901,-10.63 4.902,10.63

## SW_OMRON_A6SN-1101 [mm] "Body 4.48x7.5mm, 1 Ways SPST Surface-Mounting DIP Switch, OMRON A6SN"
height 4.6
pads (2):
  rect 2.15x1.1 smd: 1(-4.125,0) 2(4.125,0)
Top Overlay:
  lines w0.2: -3.75,-0.95 -3.75,-2.49 3.75,-2.49 3.75,-0.95 ; -3.75,0.95 -3.75,2.49 3.75,2.49 3.75,0.95 ; -1.578,-1.05 -1.578,1.05 ; -1.378,-1.05 -1.378,1.05 ; -1.178,-1.05 -1.178,1.05 ; -0.978,-1.05 -0.978,1.05 ; -0.778,-1.05 -0.778,1.05 ; -0.578,-1.05 -0.578,1.05 ; -0.378,-1.05 -0.378,1.05 ; -0.178,-1.05 -0.178,1.05 ; -0.025,-1.05 -0.025,1.05 ; -2.225,-1.05 -2.225,1.05 2.225,1.05 2.225,-1.05 -2.225,-1.05
Top Assembly:
  lines w0.1: -3.75,-0.8 -4.226,-0.8 -4.25,-0.3 -4.65,-0.3 -4.65,0.3 -4.25,0.3 -4.226,0.8 -3.75,0.8 ; -1.578,-1.05 -1.578,1.05 ; -1.478,-1.05 -1.478,1.05 ; -1.378,-1.05 -1.378,1.05 ; -1.278,-1.05 -1.278,1.05 ; -1.178,-1.05 -1.178,1.05 ; -1.078,-1.05 -1.078,1.05 ; -0.978,-1.05 -0.978,1.05 ; -0.878,-1.05 -0.878,1.05 ; -0.778,-1.05 -0.778,1.05 ; -0.678,-1.05 -0.678,1.05 ; -0.578,-1.05 -0.578,1.05 ; -0.478,-1.05 -0.478,1.05 ; -0.378,-1.05 -0.378,1.05 ; -0.278,-1.05 -0.278,1.05 ; -0.178,-1.05 -0.178,1.05 ; -0.078,-1.05 -0.078,1.05 ; -0.025,-1.05 -0.025,1.05 ; 3.75,-0.8 4.226,-0.8 4.25,-0.3 4.65,-0.3 4.65,0.3 4.25,0.3 4.226,0.8 3.75,0.8 ; 3.75,0.55 4.226,0.55 ; -3.75,-2.49 3.75,-2.49 3.75,2.49 -3.75,2.49 -3.75,-2.49 ; -2.225,-1.05 2.225,-1.05 2.225,1.05 -2.225,1.05 -2.225,-1.05
  text "ON" at 2.54,0.889 h1
Top Component Center:
  lines w0.1: -4.625,0 -4.125,0 ; -4.125,-0.5 -4.125,0 ; -4.125,0.5 -4.125,0 ; -3.625,0 -4.125,0 ; -0.5,0 0,0 ; 0,-0.5 0,0 ; 0,0.5 0,0 ; 0.5,0 0,0 ; 3.625,0 4.125,0 ; 4.125,-0.5 4.125,0 ; 4.125,0.5 4.125,0 ; 4.625,0 4.125,0 ; -5.2,-0.55 -5.2,0.55 -3.05,0.55 -3.05,-0.55 -5.2,-0.55 ; 3.05,-0.55 3.05,0.55 5.2,0.55 5.2,-0.55 3.05,-0.55
Top Component Outline:
  lines w0.05: -5.45,-1.05 -4,-1.05 -4,-2.74 4,-2.74 4,-1.05 5.45,-1.05 5.45,1.05 4,1.05 4,2.74 -4,2.74 -4,1.05 -5.45,1.05 -5.45,-1.05
Top 3D Body:
  lines w0.1: -3.75,-0.8 -4.226,-0.8 -4.25,-0.3 -4.65,-0.3 -4.65,0.3 -4.25,0.3 -4.226,0.8 -3.75,0.8 ; -1.578,-1.05 -1.578,1.05 ; -1.478,-1.05 -1.478,1.05 ; -1.378,-1.05 -1.378,1.05 ; -1.278,-1.05 -1.278,1.05 ; -1.178,-1.05 -1.178,1.05 ; -1.078,-1.05 -1.078,1.05 ; -0.978,-1.05 -0.978,1.05 ; -0.878,-1.05 -0.878,1.05 ; -0.778,-1.05 -0.778,1.05 ; -0.678,-1.05 -0.678,1.05 ; -0.578,-1.05 -0.578,1.05 ; -0.478,-1.05 -0.478,1.05 ; -0.378,-1.05 -0.378,1.05 ; -0.278,-1.05 -0.278,1.05 ; -0.178,-1.05 -0.178,1.05 ; -0.078,-1.05 -0.078,1.05 ; -0.025,-1.05 -0.025,1.05 ; 3.75,-0.8 4.226,-0.8 4.25,-0.3 4.65,-0.3 4.65,0.3 4.25,0.3 4.226,0.8 3.75,0.8 ; 3.75,0.55 4.226,0.55 ; -3.75,-2.49 3.75,-2.49 3.75,2.49 -3.75,2.49 -3.75,-2.49 ; -2.225,-1.05 2.225,-1.05 2.225,1.05 -2.225,1.05 -2.225,-1.05
  text "ON" at 2.54,0.889 h1
3D body "SW_OMRON_A6SN-1101.stp": height 4.6, standoff 0, extent -4.65,-2.49 4.65,2.49

## TECO-FSMSMTR_V [mm] "SMD, 2-Leads, Body 6x3.5mm, Pitch 9.19mm"
height 4.57
pads (2):
  rect 2.4x1.6 smd: 1(-4.394,0) 2(4.394,0)
Top Overlay:
  circle w0.25: c-6.245,0 r0.125
  lines w0.2: -3,-1.75 -3,1.75 3,1.75 3,-1.75 -3,-1.75
Top Assembly:
  circle w0.25: c-6.248,0 r0.125
  lines w0.1: -3,-1.75 -3,1.75 3,1.75 3,-1.75 -3,-1.75
Top Component Center:
  lines w0.1: -0.5,0 0.5,0 ; 0,-0.5 0,0.5
Top Component Outline:
  lines w0.05: -5.795,-1.85 -5.795,1.85 5.785,1.85 5.785,-1.85 -5.795,-1.85
Top 3D Body:
  lines w0.1: -3,-1.75 -3,1.75 3,1.75 3,-1.75 -3,-1.75
3D body "c-1437566-4-c-3d.stp": height 4.4, standoff -0.02, extent -4.984,-1.75 4.985,1.75